# Altium schematic symbol library 2173157-3.SchLib: 1 symbol
Pins are listed as number, name and electrical type; pins without a type are passive.

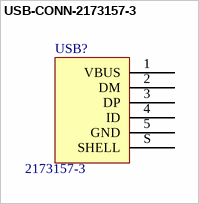
[diagram p0: symbol USB-CONN-2173157-3]

## USB-CONN-2173157-3
designator USB?, comment 2173157-3
Conn Micro USB 2.0 Type B Splash Proof; Lead-Free Status: Lead Free; ELV Compliant: Compliant; Gender: Female; Packaging: Tape & Reel (TR); Manufacturer Part Number: 2173157-3; Contact Plating: Gold; RoHS: Compliant; Octopart URL: https://octopart.com/2173157-3-te+connectivity-34977340; Housing Color: Black; Housing Material: Thermoplastic; Mounting Style: Surface Mount, Solder; Operating Temperature: -30.0 °C to 85.0 °C; Lifecycle Status: Not Listed by Manufacturer; OctopartID: 8f71446e1c2b50b6; Supplier Part Number: A124356CT-ND; Supplier 1: Digikey
footprint CONN_2173157
pins: 1 VBUS, 2 DM, 3 DP, 4 ID, 5 GND, S SHELL